# EAGLE library part UC-PIC32MX795F512H-80I/PT (library eagleLib v2)
IC, 32BIT MCU
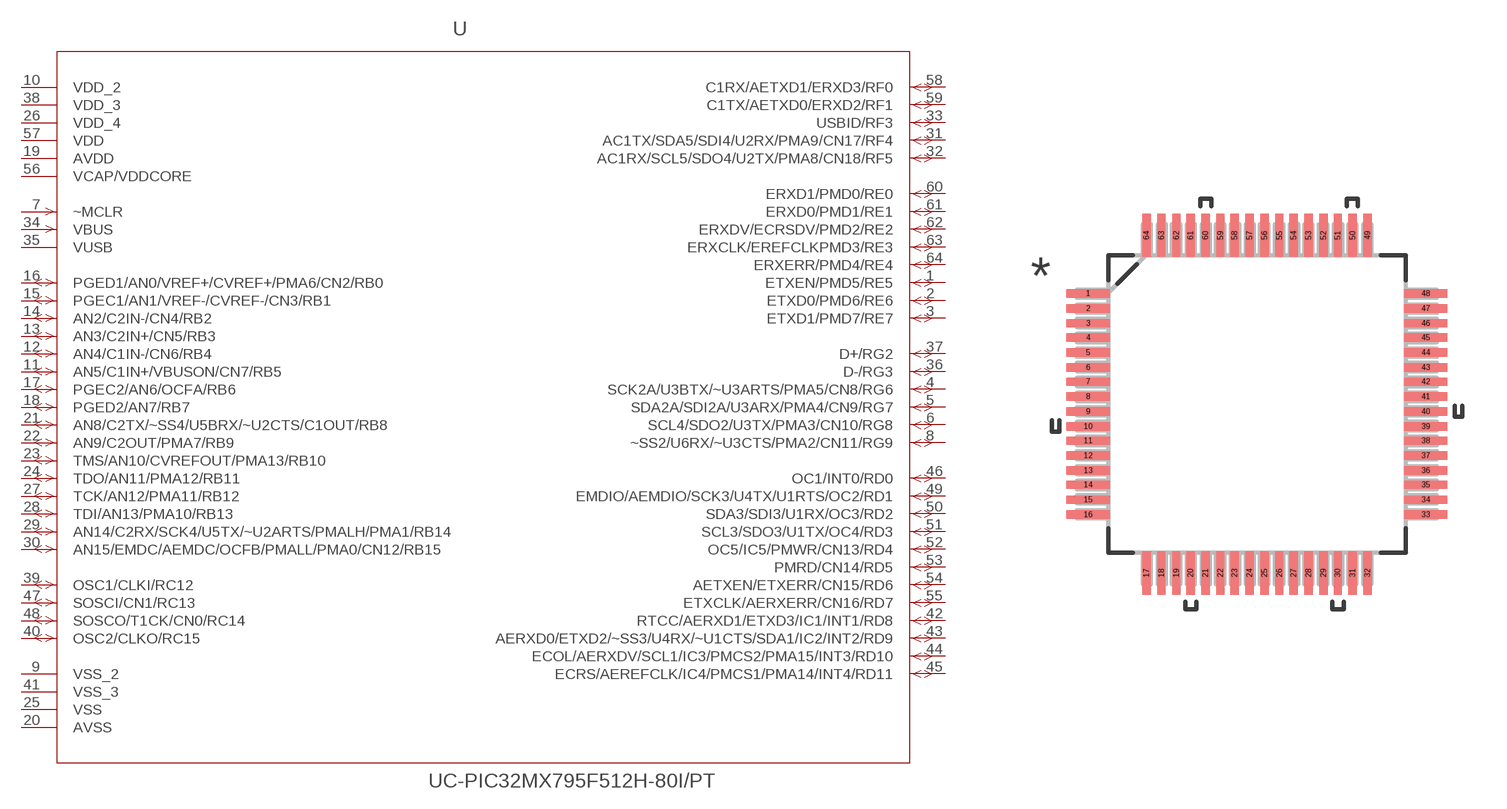
[diagram p57: symbol with the pads of QFP50P1200X1200X120-64N; footprint QFP50P1200X1200X120-64N]

Designator prefix -

## UC-PIC32MX795F512H-80I/PT (DESCRIPTION: IC MCU; MPN: PIC32MX795F512H-80I/PT; OC_FARNELL: 1778989; OC_NEWARK: 25R8415; PACKAGE: TQFP-64; SUPPLIER: Microchip)  [QFP50P1200X1200X120-64N]
1  ETXEN/PMD5/RE5
2  ETXD0/PMD6/RE6
3  ETXD1/PMD7/RE7
4  SCK2A/U3BTX/~U3ARTS/PMA5/CN8/RG6
5  SDA2A/SDI2A/U3ARX/PMA4/CN9/RG7
6  SCL4/SDO2/U3TX/PMA3/CN10/RG8
7  ~MCLR  in
8  ~SS2/U6RX/~U3CTS/PMA2/CN11/RG9
9  VSS_2  pwr
10  VDD_2  pwr
11  AN5/C1IN+/VBUSON/CN7/RB5
12  AN4/C1IN-/CN6/RB4
13  AN3/C2IN+/CN5/RB3
14  AN2/C2IN-/CN4/RB2
15  PGEC1/AN1/VREF-/CVREF-/CN3/RB1
16  PGED1/AN0/VREF+/CVREF+/PMA6/CN2/RB0
17  PGEC2/AN6/OCFA/RB6
18  PGED2/AN7/RB7
19  AVDD  pwr
20  AVSS  pwr
21  AN8/C2TX/~SS4/U5BRX/~U2CTS/C1OUT/RB8
22  AN9/C2OUT/PMA7/RB9
23  TMS/AN10/CVREFOUT/PMA13/RB10
24  TDO/AN11/PMA12/RB11
25  VSS  pwr
26  VDD_4  pwr
27  TCK/AN12/PMA11/RB12
28  TDI/AN13/PMA10/RB13
29  AN14/C2RX/SCK4/U5TX/~U2ARTS/PMALH/PMA1/RB14
30  AN15/EMDC/AEMDC/OCFB/PMALL/PMA0/CN12/RB15
31  AC1TX/SDA5/SDI4/U2RX/PMA9/CN17/RF4
32  AC1RX/SCL5/SDO4/U2TX/PMA8/CN18/RF5
33  USBID/RF3
34  VBUS  in
35  VUSB  pwr
36  D-/RG3
37  D+/RG2
38  VDD_3  pwr
39  OSC1/CLKI/RC12
40  OSC2/CLKO/RC15
41  VSS_3  pwr
42  RTCC/AERXD1/ETXD3/IC1/INT1/RD8
43  AERXD0/ETXD2/~SS3/U4RX/~U1CTS/SDA1/IC2/INT2/RD9
44  ECOL/AERXDV/SCL1/IC3/PMCS2/PMA15/INT3/RD10
45  ECRS/AEREFCLK/IC4/PMCS1/PMA14/INT4/RD11
46  OC1/INT0/RD0
47  SOSCI/CN1/RC13
48  SOSCO/T1CK/CN0/RC14
49  EMDIO/AEMDIO/SCK3/U4TX/U1RTS/OC2/RD1
50  SDA3/SDI3/U1RX/OC3/RD2
51  SCL3/SDO3/U1TX/OC4/RD3
52  OC5/IC5/PMWR/CN13/RD4
53  PMRD/CN14/RD5
54  AETXEN/ETXERR/CN15/RD6
55  ETXCLK/AERXERR/CN16/RD7
56  VCAP/VDDCORE  pwr
57  VDD  pwr
58  C1RX/AETXD1/ERXD3/RF0
59  C1TX/AETXD0/ERXD2/RF1
60  ERXD1/PMD0/RE0
61  ERXD0/PMD1/RE1
62  ERXDV/ECRSDV/PMD2/RE2
63  ERXCLK/EREFCLKPMD3/RE3
64  ERXERR/PMD4/RE4

## Footprint QFP50P1200X1200X120-64N (pad centres in mm)
smd 1.473 x 0.279: 1 -5.74,3.759; 2 -5.74,3.251; 3 -5.74,2.743; 4 -5.74,2.261; 5 -5.74,1.753; 6 -5.74,1.245; 7 -5.74,0.762; 8 -5.74,0.254; 9 -5.74,-0.254; 10 -5.74,-0.762; 11 -5.74,-1.245; 12 -5.74,-1.753; 13 -5.74,-2.261; 14 -5.74,-2.743; 15 -5.74,-3.251; 16 -5.74,-3.759; 33 5.74,-3.759; 34 5.74,-3.251; 35 5.74,-2.743; 36 5.74,-2.261; 37 5.74,-1.753; 38 5.74,-1.245; 39 5.74,-0.762; 40 5.74,-0.254; 41 5.74,0.254; 42 5.74,0.762; 43 5.74,1.245; 44 5.74,1.753; 45 5.74,2.261; 46 5.74,2.743; 47 5.74,3.251; 48 5.74,3.759
smd 0.279 x 1.473: 17 -3.759,-5.74; 18 -3.251,-5.74; 19 -2.743,-5.74; 20 -2.261,-5.74; 21 -1.753,-5.74; 22 -1.245,-5.74; 23 -0.762,-5.74; 24 -0.254,-5.74; 25 0.254,-5.74; 26 0.762,-5.74; 27 1.245,-5.74; 28 1.753,-5.74; 29 2.261,-5.74; 30 2.743,-5.74; 31 3.251,-5.74; 32 3.759,-5.74; 49 3.759,5.74; 50 3.251,5.74; 51 2.743,5.74; 52 2.261,5.74; 53 1.753,5.74; 54 1.245,5.74; 55 0.762,5.74; 56 0.254,5.74; 57 -0.254,5.74; 58 -0.762,5.74; 59 -1.245,5.74; 60 -1.753,5.74; 61 -2.261,5.74; 62 -2.743,5.74; 63 -3.251,5.74; 64 -3.759,5.74